# Altium footprint library 2019-09-07_20-25-18.PcbLib: 3 footprints
Each footprint in its own frame and in the unit in brackets; x right, y up, seen from the top. Pads: shape width x height; smd on the part's side, far side on the other; paste and mask are expansions set on the pad; w line width, h text height; cw(c..) or ccw(c..) is an arc to the next point about the centre after c.
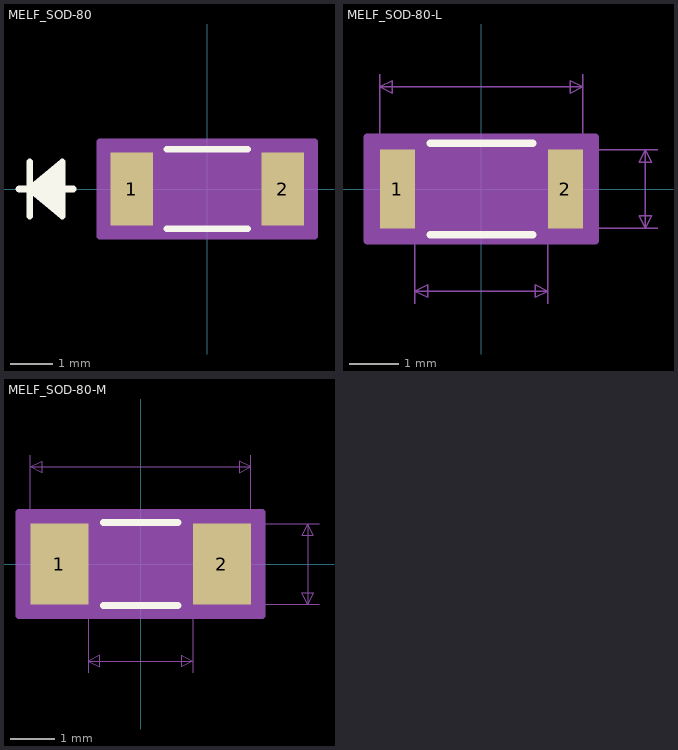
[diagram p0: the footprints below, top view; thin cyan lines are the x and y axes]

## MELF_SOD-80 [mil]
pads (2):
  rect 39x67 smd paste+0 mask+0: 1(-69.5,0) 2(69.5,0)
Top Overlay:
  lines w6: -173.5,0 -123.5,0 ; -163.5,-25 -163.5,25 ; -133.5,-20 -163.5,0 ; -133.5,-15 -163.5,0 ; -133.5,-10 -163.5,0 ; -133.5,-5 -163.5,0 ; -133.5,5 -163.5,0 ; -133.5,10 -163.5,0 ; -133.5,15 -163.5,0 ; -133.5,20 -163.5,0 ; -37.25,-36.5 37.25,-36.5 ; -37.25,36.5 37.25,36.5 ; -163.5,0 -133.5,25 -133.5,-25 -163.5,0
Mechanical 5:
  region: 96.5,-41 -96.5,-41 -96.5,41 96.5,41
Mechanical 7:
Mechanical 13:
  lines w1: -173.5,0 -123.5,0 ; -163.5,-25 -163.5,25 ; -133.5,-20 -163.5,0 ; -133.5,-15 -163.5,0 ; -133.5,-10 -163.5,0 ; -133.5,-5 -163.5,0 ; -133.5,5 -163.5,0 ; -133.5,10 -163.5,0 ; -133.5,15 -163.5,0 ; -133.5,20 -163.5,0 ; -73,-15.75 -57.25,-31.5 ; -73,15.75 -57.25,31.5 ; -163.5,0 -133.5,25 -133.5,-25 -163.5,0 ; -73,-31.5 73,-31.5 73,31.5 -73,31.5 -73,-31.5
Mechanical 15:
  region: 99,-43.5 -99,-43.5 -99,43.5 99,43.5
  lines w6: -99,-43.5 -99,43.5 99,43.5 99,-43.5 -99,-43.5
3D body: height 10, standoff 0, extent 0,0 10,10
3D body "MELF_SOD-80.step": height 62.75, standoff 0, extent -72.99,-31.43 73,31.44

## MELF_SOD-80-L [mil]
pads (2):
  rect 28x63 smd paste+0 mask+0: 1(-67,0) 2(67,0)
Top Overlay:
  lines w6: -40.89,-36.5 40.89,-36.5 ; -40.89,36.5 40.89,36.5
Mechanical 5:
  region: 88.5,-39 -88.5,-39 -88.5,39 88.5,39
Mechanical 7:
  lines w1: -81,41.5 -81,91.5 ; -53,-91.5 -53,-41.5 ; 53,-91.5 53,-41.5 ; 81,41.5 81,91.5 ; 91,-31.5 141,-31.5 ; 91,31.5 141,31.5 ; -81,81.5 81,81.5 ; -81,81.5 -71,86.5 -71,76.5 -81,81.5 ; -53,-81.5 53,-81.5 ; -53,-81.5 -43,-86.5 -43,-76.5 -53,-81.5 ; 53,-81.5 43,-86.5 43,-76.5 53,-81.5 ; 81,81.5 71,86.5 71,76.5 81,81.5 ; 131,-31.5 131,31.5 ; 131,-31.5 126,-21.5 136,-21.5 131,-31.5 ; 131,31.5 126,21.5 136,21.5 131,31.5
  text "Default Padstyle: RX28Y63D0T" at -350,-201.5 h50
  text "Alt 1 Padstyle: OX60Y90D30P" at -337.5,-261.5 h50
  text "Alt 2 Padstyle: OX90Y60D30P" at -337.5,-321.5 h50
  text ".063in/1.6mm" at 141,-12.5 h25
Mechanical 13:
  lines w1: -73,-15.75 -57.25,-31.5 ; -73,15.75 -57.25,31.5 ; -73,-31.5 73,-31.5 73,31.5 -73,31.5 -73,-31.5
Mechanical 15:
  region: 91,-41.5 -91,-41.5 -91,41.5 91,41.5
  lines w6: -91,-41.5 -91,41.5 91,41.5 91,-41.5 -91,-41.5
3D body: height 10, standoff 0, extent 0,0 10,10

## MELF_SOD-80-M [mil]
pads (2):
  rect 51x71 smd paste+0 mask+0: 1(-71.5,0) 2(71.5,0)
Top Overlay:
  lines w6: -32.94,-36.5 32.94,-36.5 ; -32.94,36.5 32.94,36.5
Mechanical 5:
  region: 104.5,-43 -104.5,-43 -104.5,43 104.5,43
Mechanical 7:
  lines w1: -97,45.5 -97,95.5 ; -46,-95.5 -46,-45.5 ; 46,-95.5 46,-45.5 ; 97,45.5 97,95.5 ; 107,-35.5 157,-35.5 ; 107,35.5 157,35.5 ; -97,85.5 97,85.5 ; -97,85.5 -87,90.5 -87,80.5 -97,85.5 ; -46,-85.5 46,-85.5 ; -46,-85.5 -36,-90.5 -36,-80.5 -46,-85.5 ; 46,-85.5 36,-90.5 36,-80.5 46,-85.5 ; 97,85.5 87,90.5 87,80.5 97,85.5 ; 147,-35.5 147,35.5 ; 147,-35.5 142,-25.5 152,-25.5 147,-35.5 ; 147,35.5 142,25.5 152,25.5 147,35.5
  text "Default Padstyle: RX51Y71D0T" at -350,-205.5 h50
  text "Alt 1 Padstyle: OX60Y90D30P" at -337.5,-265.5 h50
  text "Alt 2 Padstyle: OX90Y60D30P" at -337.5,-325.5 h50
  text ".071in/1.803mm" at 157,-12.5 h25
Mechanical 13:
  lines w1: -73,-15.75 -57.25,-31.5 ; -73,15.75 -57.25,31.5 ; -73,-31.5 73,-31.5 73,31.5 -73,31.5 -73,-31.5
Mechanical 15:
  region: 107,-45.5 -107,-45.5 -107,45.5 107,45.5
  lines w6: -107,-45.5 -107,45.5 107,45.5 107,-45.5 -107,-45.5
3D body: height 10, standoff 0, extent 0,0 10,10